# Altium footprint library JQ1a-12v.PcbLib: 1 footprints
Each footprint in its own frame and in the unit in brackets; x right, y up, seen from the top. Pads: shape width x height; smd on the part's side, far side on the other; paste and mask are expansions set on the pad; w line width, h text height; cw(c..) or ccw(c..) is an arc to the next point about the centre after c.
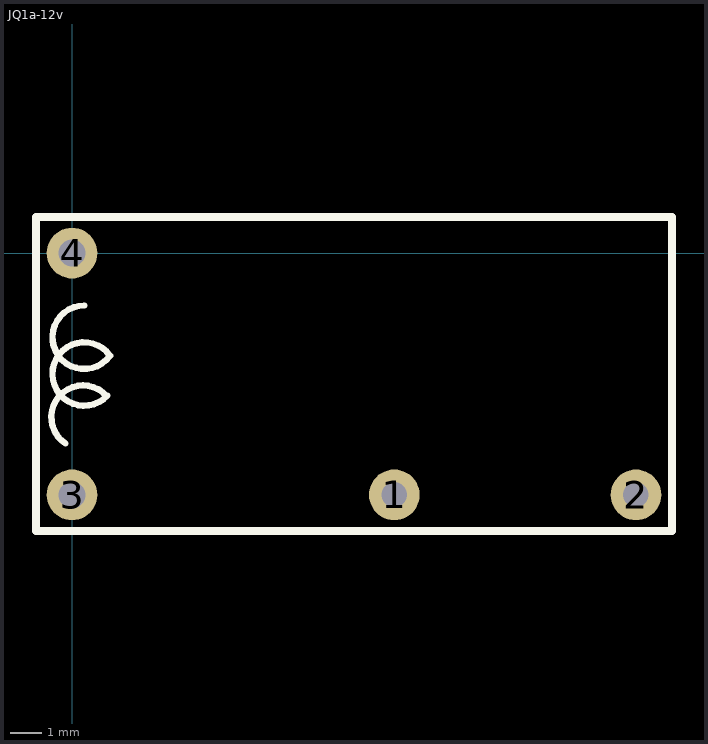
[diagram p0: the footprint, top view; thin cyan lines are the x and y axes]

## JQ1a-12v [mm]
pads (4):
  round 1.6 hole 0.8: 1(10.16,-7.62) 2(17.78,-7.62)
  round 1.6 hole 0.85: 3(0,-7.62) 4(0,0)
Top Overlay:
  lines w0.2: -0.209,-6.001 cw(c0.346,-5.169) 1.097,-4.509 ; 0.381,-1.651 ccw(c0.381,-2.651) 1.183,-3.248 ; 1.115,-4.489 cw(c0.381,-3.81) 1.2,-3.236
  lines w0.254: -1.143,-8.763 18.923,-8.763 18.923,1.143 -1.143,1.143 -1.143,-8.763
3D body "rele JQ1a-12v.STEP": height 16, standoff -3.8, extent -1.077,-8.81 18.923,1.19